# Altium schematic symbol library SRP2313AA-101M.SchLib: 1 symbol
Pins are listed as number, name and electrical type; pins without a type are passive.

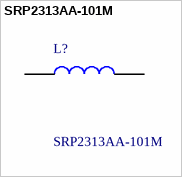
[diagram p0: symbol SRP2313AA-101M]

## SRP2313AA-101M
designator L?
Fixed Inductors Ind,23.5x22x12.6mm 100uH20%,11A, shdSMD; Manufacturer_Name: Bourns; Geometry.Height: 13mm; Mouser Part Number: 652-SRP2313AA-101M; Mouser Price/Stock: https://www.mouser.co.uk/ProductDetail/Bourns/SRP2313AA-101M?qs=gZXFycFWdANfITbqx%252BPtOw%3D%3D; Manufacturer_Part_Number: SRP2313AA-101M; Datasheet Link: *
footprint INDPM235220X1300N
pins: 1, 2